# Altium schematic symbol library V23079B1201B301.SchLib: 1 symbol
Pins are listed as number, name and electrical type; pins without a type are passive.

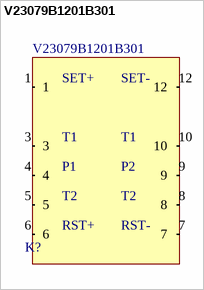
[diagram p0: symbol V23079B1201B301]

## V23079B1201B301
designator K?
footprint DIP12MINUS2
pins: 1, 3, 4, 5, 6, 7, 8, 9, 10, 12
text: SET+; SET-; T1; P1; P2; T2; RST+; RST-